# Altium footprint library WURTH_61300211121.PcbLib: 1 footprints
Each footprint in its own frame and in the unit in brackets; x right, y up, seen from the top. Pads: shape width x height; smd on the part's side, far side on the other; paste and mask are expansions set on the pad; w line width, h text height; cw(c..) or ccw(c..) is an arc to the next point about the centre after c.
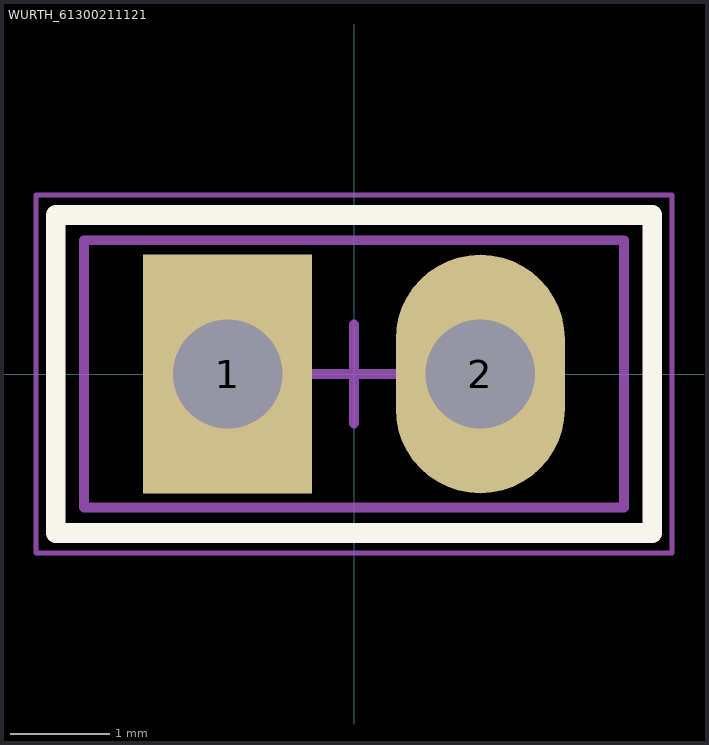
[diagram p0: the footprint, top view; thin cyan lines are the x and y axes]

## WURTH_61300211121 [mm]
height 8.54
pads (2):
  rect 1.7x2.4 hole 1.1 mask+0.05: 1(-1.27,0)
  oval 1.7x2.4 hole 1.1 mask+0.05: 2(1.27,0)
Top Overlay:
  lines w0.2: -3,-1.6 -3,1.6 3,1.6 3,-1.6 -3,-1.6
Top 3D Body:
  lines w0.1: -2.715,-1.345 2.715,-1.345 2.715,1.345 -2.715,1.345 -2.715,-1.345
Top Courtyard (Mech15):
  lines w0.05: -3.2,-1.8 3.2,-1.8 3.2,1.8 -3.2,1.8 -3.2,-1.8
  lines w0.1: -0.5,0 0.5,0 ; 0,-0.5 0,0.5
3D body "WURTH_61300211121.stp": height 8.57, standoff -2.97, extent -2.54,-1.27 2.54,1.27